# Altium footprint library INDUCTOR.PcbLib: 1 footprints
Each footprint in its own frame and in the unit in brackets; x right, y up, seen from the top. Pads: shape width x height; smd on the part's side, far side on the other; paste and mask are expansions set on the pad; w line width, h text height; cw(c..) or ccw(c..) is an arc to the next point about the centre after c.
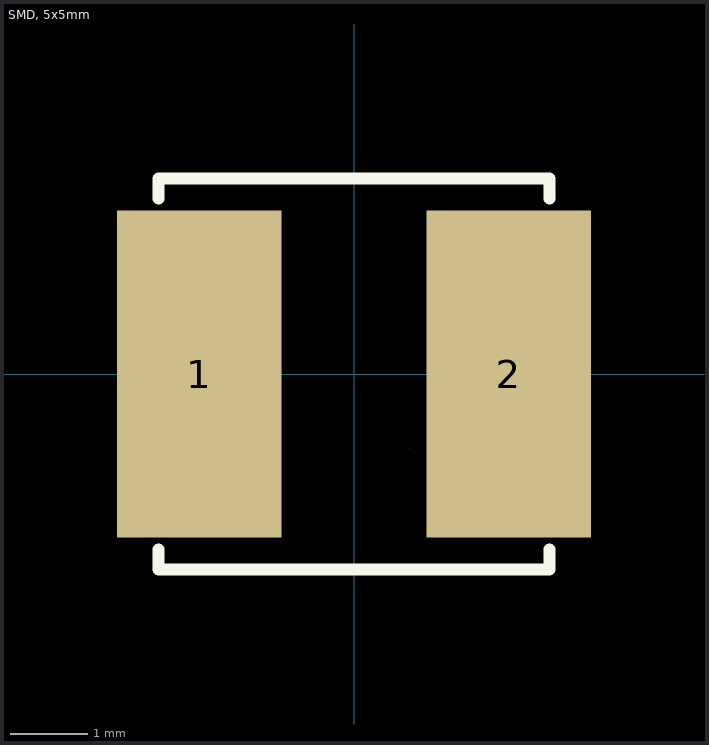
[diagram p0: the footprint, top view; thin cyan lines are the x and y axes]

## SMD, 5x5mm [mm]
pads (2):
  rect 2.124x4.22 smd paste+0 mask+0.051: 1(-2,0) 2(2,0)
Top Overlay:
  lines w0.152: -2.526,-2.262 -2.526,-2.526 2.526,-2.526 2.526,-2.262 ; -2.526,2.262 -2.526,2.526 2.526,2.526 2.526,2.262
Mechanical 15:
  lines w0.003: 0.723,-0.965 0.723,-0.965
3D body "sdr0403-2r7ml.stp": height 3.2, standoff 0, extent -2.25,-2.25 2.25,2.25